# Altium schematic symbol library ComponentesVarios.SchLib: 2 symbols
Pins are listed as number, name and electrical type; pins without a type are passive.

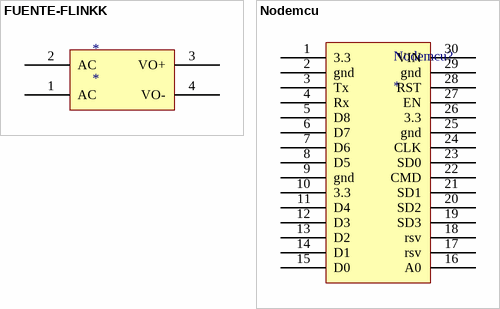
[diagram p0: symbols FUENTE-FLINKK to Nodemcu]

## FUENTE-FLINKK
designator *
footprint FUENTE-HLINK
pins: 1 AC, 2 AC, 3 VO+, 4 VO-

## Nodemcu
designator Nodemcu?
footprint NodeMcuAmica - DIP
pins: 1 3.3, 2 gnd, 3 Tx, 4 Rx, 5 D8, 6 D7, 7 D6, 8 D5, 9 gnd, 10 3.3, 11 D4, 12 D3, 13 D2, 14 D1, 15 D0, 16 A0, 17 rsv, 18 rsv, 19 SD3, 20 SD2, 21 SD1, 22 CMD, 23 SD0, 24 CLK, 25 gnd, 26 3.3, 27 EN, 28 RST, 29 gnd, 30 VIN